# Altium schematic symbol library IC_LP3984.SchLib: 1 symbol
Pins are listed as number, name and electrical type; pins without a type are passive.

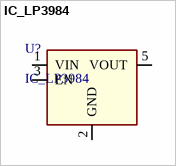
[diagram p0: symbol IC_LP3984]

## IC_LP3984
designator U?
pins: 1 VIN (power), 2 GND (power), 3 EN, 5 VOUT (power)